# Altium integrated library Altera Stratix II GX.IntLib: 75 symbols (part 47 of 54)
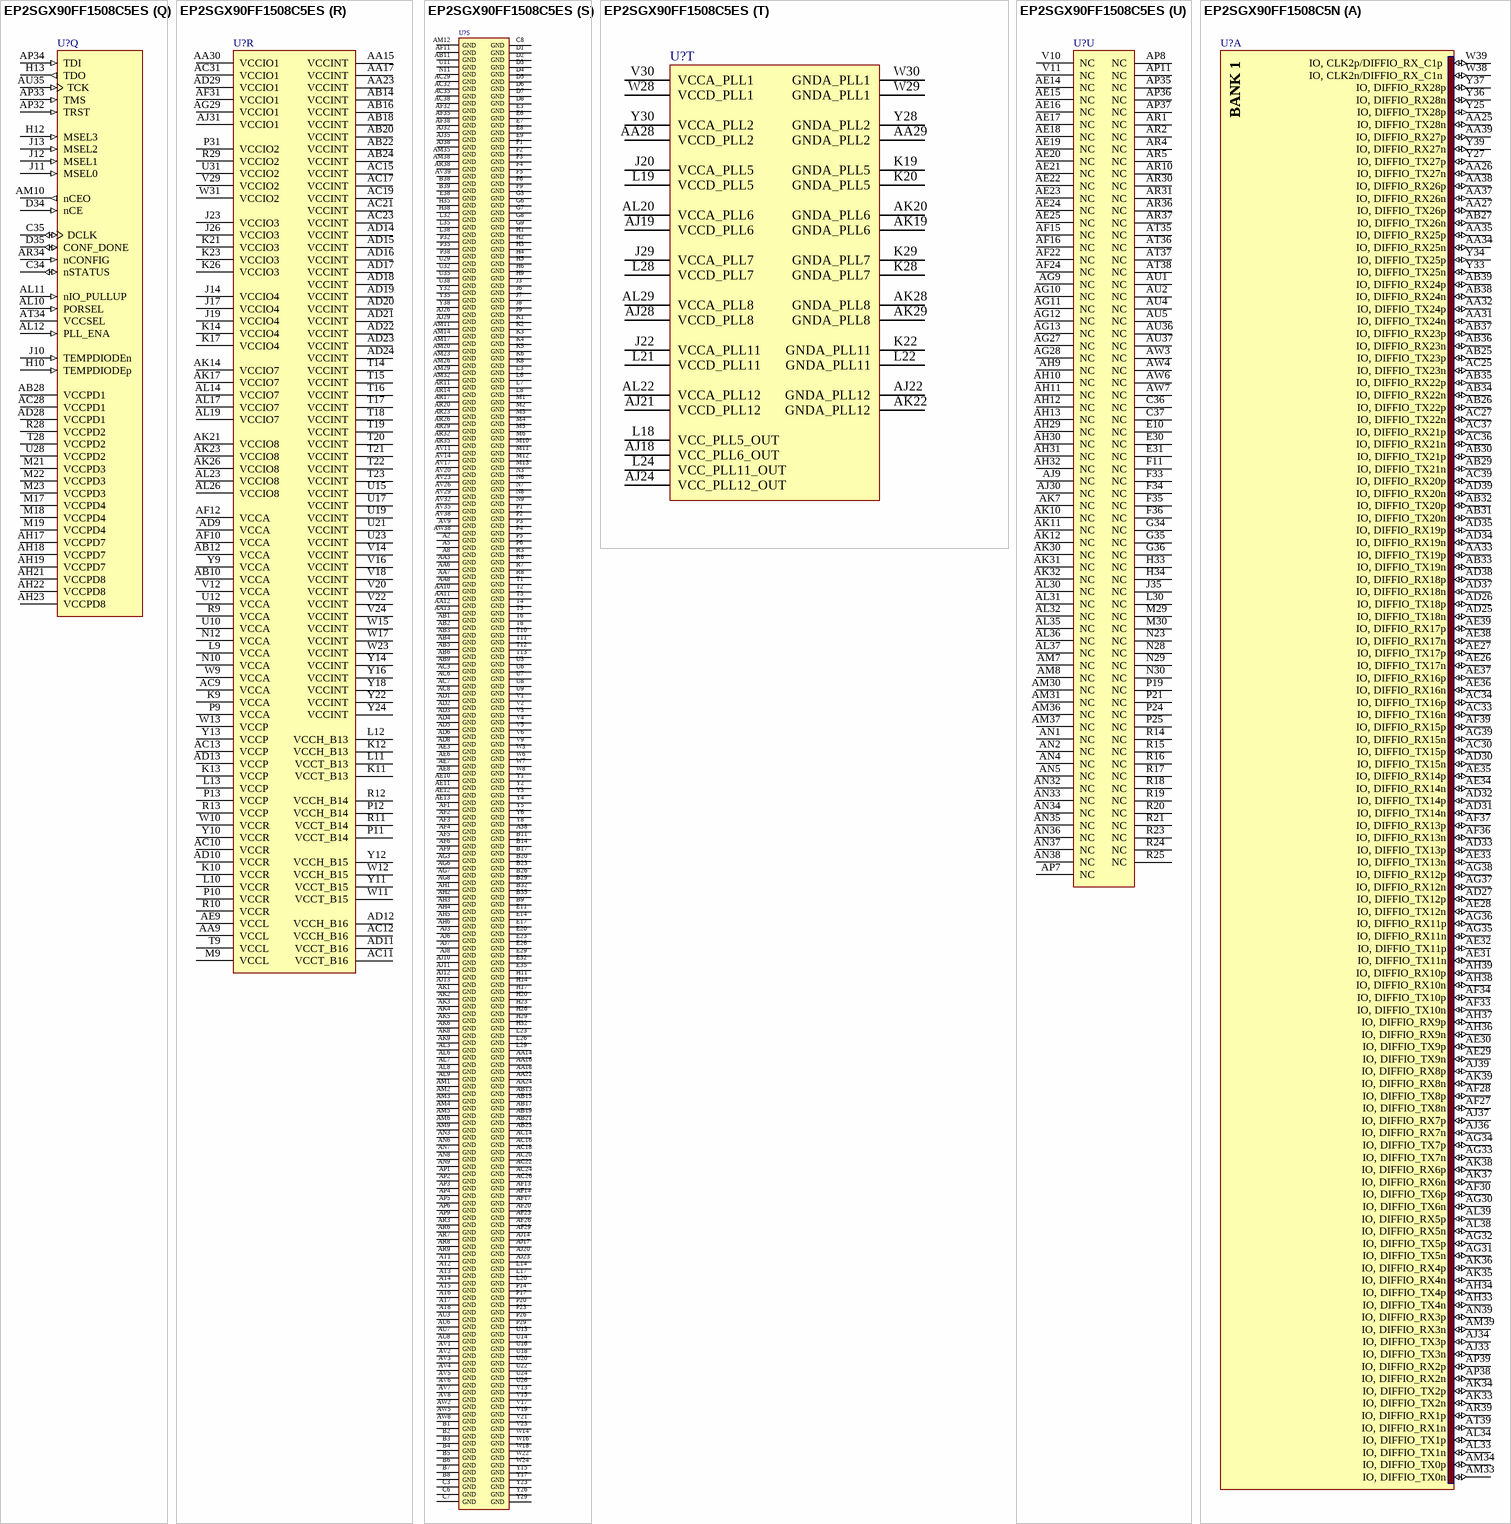
[diagram p269: symbols EP2SGX90FF1508C5ES to EP2SGX90FF1508C5N]

## EP2SGX90FF1508C5ES
designator U?
Stratix II GX 1.2V FPGA, 650 I/Os, 1508-Pin FineLine BGA, Speed Grade 5, Commercial Grade; DatasheetVersion: ver4.3, Oct-2007; PackageVersion: ver15.1, May-2008; PackageReference: FBGA1508; PackageDescription: 1508-Ball FineLine Ball Grid Array (FBGA1508) - Flip Chip; Code_JEDEC: MS-034-AAU-1; ComponentLink1Description: Manufacturer URL; ComponentLink1URL: http://www.altera.com/; ComponentLink2Description: Handbook; ComponentLink2URL: http://www.altera.com/literature/hb/stx2gx/stxiigx_handbook.pdf; ComponentLink3Description: Package Specification; ComponentLink3URL: http://www.altera.com/literature/ds/dspkg.pdf
footprint FBGA1508 (BGA, 1508-Leads, Body 40x40mm, Pitch 1mm)
part A pins: AA25 IO, DIFFIO_TX28n (io), AA26 IO, DIFFIO_TX27n (io), AA27 IO, DIFFIO_TX26p (io), AA31 IO, DIFFIO_TX24n (io), AA32 IO, DIFFIO_TX24p (io), AA33 IO, DIFFIO_TX19p (io), AA34 IO, DIFFIO_RX25n (io), AA35 IO, DIFFIO_RX25p (io), AA37 IO, DIFFIO_RX26n (io), AA38 IO, DIFFIO_RX26p (io), AA39 IO, DIFFIO_RX27p (io), AB25 IO, DIFFIO_TX23p (io), AB26 IO, DIFFIO_TX22p (io), AB27 IO, DIFFIO_TX26n (io), AB29 IO, DIFFIO_TX21n (io), AB30 IO, DIFFIO_TX21p (io), AB31 IO, DIFFIO_TX20n (io), AB32 IO, DIFFIO_TX20p (io), AB33 IO, DIFFIO_TX19n (io), AB34 IO, DIFFIO_RX22n (io), AB35 IO, DIFFIO_RX22p (io), AB36 IO, DIFFIO_RX23n (io), AB37 IO, DIFFIO_RX23p (io), AB38 IO, DIFFIO_RX24n (io), AB39 IO, DIFFIO_RX24p (io), AC25 IO, DIFFIO_TX23n (io), AC27 IO, DIFFIO_TX22n (io), AC30 IO, DIFFIO_TX15p (io), AC33 IO, DIFFIO_TX16n (io), AC34 IO, DIFFIO_TX16p (io), AC36 IO, DIFFIO_RX21n (io), AC37 IO, DIFFIO_RX21p (io), AC39 IO, DIFFIO_RX20p (io), AD25 IO, DIFFIO_TX18n (io), AD26 IO, DIFFIO_TX18p (io), AD27 IO, DIFFIO_TX12p (io), AD30 IO, DIFFIO_TX15n (io), AD31 IO, DIFFIO_TX14n (io), AD32 IO, DIFFIO_TX14p (io), AD33 IO, DIFFIO_TX13p (io), AD34 IO, DIFFIO_RX19n (io), AD35 IO, DIFFIO_RX19p (io), AD37 IO, DIFFIO_RX18n (io), AD38 IO, DIFFIO_RX18p (io), AD39 IO, DIFFIO_RX20n (io), AE26 IO, DIFFIO_TX17n (io), AE27 IO, DIFFIO_TX17p (io), AE28 IO, DIFFIO_TX12n (io), AE29 IO, DIFFIO_TX9n (io), AE30 IO, DIFFIO_TX9p (io), AE31 IO, DIFFIO_TX11n (io), AE32 IO, DIFFIO_TX11p (io), AE33 IO, DIFFIO_TX13n (io), AE34 IO, DIFFIO_RX14n (io), AE35 IO, DIFFIO_RX14p (io), AE36 IO, DIFFIO_RX16n (io), AE37 IO, DIFFIO_RX16p (io), AE38 IO, DIFFIO_RX17n (io), AE39 IO, DIFFIO_RX17p (io), AF27 IO, DIFFIO_TX8n (io), AF28 IO, DIFFIO_TX8p (io), AF30 IO, DIFFIO_TX6p (io), AF33 IO, DIFFIO_TX10n (io), AF34 IO, DIFFIO_TX10p (io), AF36 IO, DIFFIO_RX13n (io), AF37 IO, DIFFIO_RX13p (io), AF39 IO, DIFFIO_RX15p (io), AG30 IO, DIFFIO_TX6n (io), AG31 IO, DIFFIO_TX5n (io), AG32 IO, DIFFIO_TX5p (io), AG33 IO, DIFFIO_TX7n (io), AG34 IO, DIFFIO_TX7p (io), AG35 IO, DIFFIO_RX11n (io), AG36 IO, DIFFIO_RX11p (io), AG37 IO, DIFFIO_RX12n (io), AG38 IO, DIFFIO_RX12p (io), AG39 IO, DIFFIO_RX15n (io), AH33 IO, DIFFIO_TX4n (io), AH34 IO, DIFFIO_TX4p (io), AH36 IO, DIFFIO_RX9n (io), AH37 IO, DIFFIO_RX9p (io), AH38 IO, DIFFIO_RX10n (io), AH39 IO, DIFFIO_RX10p (io), AJ33 IO, DIFFIO_TX3n (io), AJ34 IO, DIFFIO_TX3p (io), AJ36 IO, DIFFIO_RX7n (io), AJ37 IO, DIFFIO_RX7p (io), AJ39 IO, DIFFIO_RX8p (io), AK33 IO, DIFFIO_TX2n (io), AK34 IO, DIFFIO_TX2p (io), AK35 IO, DIFFIO_RX4n (io), AK36 IO, DIFFIO_RX4p (io), AK37 IO, DIFFIO_RX6n (io), AK38 IO, DIFFIO_RX6p (io), AK39 IO, DIFFIO_RX8n (io), AL33 IO, DIFFIO_TX1n (io), AL34 IO, DIFFIO_TX1p (io), AL38 IO, DIFFIO_RX5n (io), AL39 IO, DIFFIO_RX5p (io), AM33 IO, DIFFIO_TX0n (io), AM34 IO, DIFFIO_TX0p (io), AM39 IO, DIFFIO_RX3n (io), AN39 IO, DIFFIO_RX3p (io), AP38 IO, DIFFIO_RX2n (io), AP39 IO, DIFFIO_RX2p (io), AR39 IO, DIFFIO_RX1p (io), AT39 IO, DIFFIO_RX1n (io), W38 IO, CLK2n/DIFFIO_RX_C1n (io), W39 IO, CLK2p/DIFFIO_RX_C1p (io), Y25 IO, DIFFIO_TX28p (io), Y27 IO, DIFFIO_TX27p (io), Y33 IO, DIFFIO_TX25n (io), Y34 IO, DIFFIO_TX25p (io), Y36 IO, DIFFIO_RX28n (io), Y37 IO, DIFFIO_RX28p (io), Y39 IO, DIFFIO_RX27n (io)
part B pins: D36 IO, DIFFIO_RX57n (io), D37 IO, DIFFIO_RX57p (io), D38 IO, DIFFIO_RX55n (io), D39 IO, DIFFIO_RX55p (io), E36 IO, DIFFIO_RX56n (io), E37 IO, DIFFIO_RX56p (io), E39 IO, DIFFIO_RX52p (io), F37 IO, DIFFIO_RX54n (io), F38 IO, DIFFIO_RX54p (io), F39 IO, DIFFIO_RX52n (io), G32 IO, DIFFIO_TX58n (io), G33 IO, DIFFIO_TX58p (io), G37 IO, DIFFIO_RX51n (io), G38 IO, DIFFIO_RX51p (io), G39 IO, DIFFIO_RX49p (io), H36 IO, DIFFIO_RX50n (io), H37 IO, DIFFIO_RX50p (io), H39 IO, DIFFIO_RX49n (io), J31 IO, DIFFIO_TX57n (io), J32 IO, DIFFIO_TX57p (io), J33 IO, DIFFIO_RX53n (io), J34 IO, DIFFIO_RX53p (io), J36 IO, DIFFIO_RX46n (io), J37 IO, DIFFIO_RX46p (io), J38 IO, DIFFIO_RX44n (io), J39 IO, DIFFIO_RX44p (io), K30 IO, DIFFIO_TX55p (io), K31 IO, DIFFIO_TX56n (io), K32 IO, DIFFIO_TX56p (io), K33 IO, DIFFIO_TX54n (io), K34 IO, DIFFIO_TX54p (io), K35 IO, DIFFIO_RX47n (io), K36 IO, DIFFIO_RX47p (io), K37 IO, DIFFIO_RX43n (io), K38 IO, DIFFIO_RX43p (io), K39 IO, DIFFIO_RX42p (io), L31 IO, DIFFIO_TX55n (io), L33 IO, DIFFIO_TX53n (io), L34 IO, DIFFIO_TX53p (io), L36 IO, DIFFIO_RX45n (io), L37 IO, DIFFIO_RX45p (io), L39 IO, DIFFIO_RX42n (io), M31 IO, DIFFIO_TX52n (io), M32 IO, DIFFIO_TX52p (io), M33 IO, DIFFIO_RX48n (io), M34 IO, DIFFIO_RX48p (io), M36 IO, DIFFIO_RX41n (io), M37 IO, DIFFIO_RX41p (io), M38 IO, DIFFIO_RX39n (io), M39 IO, DIFFIO_RX39p (io), N27 IO, DIFFIO_TX49p (io), N31 IO, DIFFIO_TX51n (io), N32 IO, DIFFIO_TX51p (io), N33 IO, DIFFIO_TX50n (io), N34 IO, DIFFIO_TX50p (io), N35 IO, DIFFIO_RX40n (io), N36 IO, DIFFIO_RX40p (io), N37 IO, DIFFIO_RX38n (io), N38 IO, DIFFIO_RX38p (io), N39 IO, DIFFIO_RX37p (io), P27 IO, DIFFIO_TX45p (io), P28 IO, DIFFIO_TX49n (io), P30 IO, DIFFIO_TX47p (io), P33 IO, DIFFIO_TX48n (io), P34 IO, DIFFIO_TX48p (io), P36 IO, DIFFIO_RX34n (io), P37 IO, DIFFIO_RX34p (io), P39 IO, DIFFIO_RX37n (io), R26 IO, DIFFIO_TX40p (io), R27 IO, DIFFIO_TX45n (io), R30 IO, DIFFIO_TX44p (io), R31 IO, DIFFIO_TX47n (io), R32 IO, DIFFIO_TX46n (io), R33 IO, DIFFIO_TX46p (io), R34 IO, DIFFIO_RX36n (io), R35 IO, DIFFIO_RX36p (io), R36 IO, DIFFIO_RX33n (io), R37 IO, DIFFIO_RX33p (io), R38 IO, DIFFIO_RX32n (io), R39 IO, DIFFIO_RX32p (io), T24 IO, DIFFIO_TX39n (io), T25 IO, DIFFIO_TX39p (io), T26 IO, DIFFIO_TX40n (io), T27 IO, DIFFIO_TX38p (io), T29 IO, DIFFIO_TX44n (io), T30 IO, DIFFIO_TX41n (io), T31 IO, DIFFIO_TX41p (io), T32 IO, DIFFIO_TX43n (io), T33 IO, DIFFIO_TX43p (io), T34 IO, DIFFIO_RX35n (io), T35 IO, DIFFIO_RX35p (io), T37 IO, DIFFIO_RX30n (io), T38 IO, DIFFIO_RX30p (io), T39 IO, DIFFIO_RX29n (io), U25 IO, DIFFIO_TX37p (io), U27 IO, DIFFIO_TX38n (io), U30 IO, DIFFIO_TX35n (io), U33 IO, DIFFIO_TX42n (io), U34 IO, DIFFIO_TX42p (io), U36 IO, DIFFIO_RX31n (io), U37 IO, DIFFIO_RX31p (io), U39 IO, DIFFIO_RX29p (io), V25 IO, DIFFIO_TX36p (io), V26 IO, DIFFIO_TX37n (io), V27 IO, DIFFIO_TX33n (io), V28 IO, DIFFIO_TX33p (io), V31 IO, DIFFIO_TX35p (io), V32 IO, DIFFIO_TX31n (io), V33 IO, DIFFIO_TX31p (io), V34 IO, DIFFIO_TX32n (io), V35 IO, DIFFIO_TX32p (io), V38 IO, CLK0n/DIFFIO_RX_C0n (io), V39 IO, CLK0p/DIFFIO_RX_C0p (io), W25 IO, DIFFIO_TX36n (io), W26 IO, DIFFIO_TX34n (io), W27 IO, DIFFIO_TX34p (io), W32 IO, DIFFIO_TX29p (io), W33 IO, DIFFIO_TX30n (io), W34 IO, DIFFIO_TX30p (io), Y31 IO, DIFFIO_TX29n (io)
part C pins: A23 IO, DQ10T/DQ5T1/DQ2T2/DQ1T2 (io), A24 IO, DQ10T/DQ5T2/DQ2T3/DQ1T3 (io), A25 IO, DQ11T/DQ5T7/DQ2T7/DQ1T8 (io), A26 IO, DQ12T/DQ6T3/DQ2T13/DQ1T14 (io), A27 IO, DQ13T/DQ6T6/DQ2T16/DQ1T16 (io), A28 IO, DQ13T/DQ6T7/DQ2T17/DQ1T17 (io), A29 IO, DQ14T/DQ7T1/DQ3T2/DQ1T20 (io), A30 IO, DQ15T/DQ7T7/DQ3T7/DQ1T26 (io), A31 IO, DQ15T/DQ7T6/DQ3T6/DQ1T25 (io), A32 IO, DQ16T/DQ8T0/DQ3T10/DQ1T29 (io), A33 IO, DQS16T/DQS8T/DQVLD3T (io), A34 IO, DQ16T/DQ8T3/DQ3T13/DQ1T32 (io), A35 IO, DQ17T/DQ8T5/DQ3T15/DQ1T34 (io), A36 IO, DQS17T/DQVLD8T (io), A37 IO, DQ17T/DQ8T8 (io), B24 IO, DQ10T/DQ5T3/DQ2T4/DQ1T4 (io), B25 IO, DQ11T/DQ5T8/DQ2T8/DQ1T9 (io), B27 IO, DQS13T/DQVLD6T/DQS1T (io), B28 IO, DQSn13T/DQ6T4/DQ2T14/DQSn1T (io), B30 IO, DQS15T/DQVLD7T/DQS3T (io), B31 IO, DQSn15T/DQ7T4/DQSn3T/DQ1T23 (io), B33 IO, DQSn16T/DQSn8T/DQ3T9/DQ1T28 (io), B34 IO, DQ17T/DQ8T6/DQ3T16/DQ1T35 (io), B36 IO, DQSn17T/DQ8T4/DQ3T14/DQ1T33 (io), B37 IO, DQ17T/DQ8T7/DQ3T17 (io), C22 IO, CLK14p (io), C23 IO, DQS10T/DQS5T (io), C24 IO, DQS11T/DQVLD5T/DQS2T (io), C25 IO, DQSn11T/DQ5T4/DQSn2T/DQ1T5 (io), C26 IO, DQ12T/DQ6T2/DQ2T12/DQ1T13 (io), C27 IO, DQ13T/DQ6T8 (io), C28 IO, DQS14T/DQS7T (io), C29 IO, DQSn14T/DQSn7T/DQ3T0/DQ1T18 (io), C30 IO, DQ15T/DQ7T5/DQ3T5/DQ1T24 (io), C31 IO, DQ15T/DQ7T8/DQ3T8/DQ1T27 (io), C32 IO, DQ16T/DQ8T1/DQ3T11/DQ1T30 (io), C33 IO, DQ16T/DQ8T2/DQ3T12/DQ1T31 (io), D21 IO, CLK14n (io), D23 IO, DQSn10T/DQSn5T/DQ2T0/DQ1T0 (io), D24 IO, DQ11T/DQ5T5/DQ2T5/DQ1T6 (io), D25 IO, DQS12T/DQS6T/DQVLD2T/DQVLD1T (io), D26 IO, DQSn12T/DQSn6T/DQ2T9/DQ1T10 (io), D27 IO, DQ13T/DQ6T5/DQ2T15/DQ1T15 (io), D28 IO, DQ14T/DQ7T0/DQ3T1/DQ1T19 (io), D29 IO, DQ14T/DQ7T3/DQ3T4/DQ1T22 (io), D30 IO (io), D31 IO (io), D32 IO (DATA2) (io), D33 IO (DATA3) (io), E25 IO, DQ12T/DQ6T1/DQ2T11/DQ1T12 (io), E28 IO, DQ14T/DQ7T2/DQ3T3/DQ1T21 (io), E33 IO (INIT_DONE) (io), E34 IO (io), F21 IO, CLK15p (io), F23 IO, DQ10T/DQ5T0/DQ2T1/DQ1T1 (io), F24 IO, DQ11T/DQ5T6/DQ2T6/DQ1T7 (io), F25 IO, DQ12T/DQ6T0/DQ2T10/DQ1T11 (io), F26 IO (io), F27 IO (io), F28 IO (io), F29 IO (io), F30 IO (io), F31 IO (DATA4) (io), F32 IO (DATA7) (io), G21 IO, CLK15n (io), G23 IO (PGM2) (io), G24 IO (nCSO) (io), G25 IO (io), G26 IO (io), G27 IO (io), G28 IO (io), G29 IO (io), G30 IO (DATA6) (io), G31 IO (RDYnBSY) (io), H22 IO (PGM1) (io), H24 IO (CRC_ERROR) (io), H25 IO (io), H27 IO (io), H28 IO (io), H30 IO (DATA5) (io), H31 IO (io), J24 IO (DATA0) (io), J25 IO (io), J27 IO (io), J28 IO (io), J30 IO (io), K24 IO (io), K25 IO (io), K27 IO (io), L25 IO (io), L27 IO (io), M24 IO (io), M25 IO (io), M26 IO (io), M27 IO (io), M28 IO (io), N22 IO (PGM0) (io), N24 IO (io), N25 IO (io), N26 IO (io), P22 IO (ASDO) (io), R22 IO (DATA1) (io)
part D pins: A9 IO, DQ0T/DQ0T3 (io), A10 IO, DQ1T/DQ0T6 (io), A11 IO, DQ2T/DQ1T1/DQ0T2/DQ0T2 (io), A12 IO, DQ2T/DQ1T3/DQ0T4/DQ0T4 (io), A13 IO, DQ3T/DQ1T8/DQ0T8/DQ0T9 (io), A14 IO, DQ5T/DQ2T7/DQ0T17/DQ0T17 (io), A15 IO, DQ5T/DQ2T8 (io), A16 IO, DQ6T/DQ3T3/DQ1T4/DQ0T22 (io), A17 IO, DQ8T/DQ4T1/DQ1T11/DQ0T30 (io), A18 IO, DQ8T/DQ4T0/DQ1T10/DQ0T29 (io), A20 IO, CLK12p (io), A21 IO, CLK12n (io), B10 IO, DQ1T/DQ0T8 (io), B12 IO, DQSn2T/DQSn1T/DQ0T0/DQ0T0 (io), B13 IO, DQ3T/DQ1T5/DQ0T5/DQ0T6 (io), B15 IO, DQSn5T/DQ2T4/DQ0T14/DQSn0T (io), B16 IO, DQ6T/DQ3T0/DQ1T1/DQ0T19 (io), B18 IO, DQS8T/DQS4T/DQVLD1T (io), B21 IO, CLK13p (io), C9 IO, DQ0T/DQ0T0 (io), C10 IO, DQ1T/DQ0T5 (io), C11 IO, DQSn1T/DQ0T4 (io), C12 IO, DQS2T/DQS1T (io), C13 IO, DQSn3T/DQ1T4/DQSn0T/DQ0T5 (io), C14 IO, DQ4T/DQ2T3/DQ0T13/DQ0T14 (io), C15 IO, DQS5T/DQVLD2T/DQS0T (io), C16 IO, DQSn6T/DQSn3T/DQ1T0/DQ0T18 (io), C17 IO, DQ7T/DQ3T8/DQ1T8/DQ0T27 (io), C18 IO, DQSn8T/DQSn4T/DQ1T9/DQ0T28 (io), C19 IO, DQ9T/DQ4T7/DQ1T17 (io), C21 IO, CLK13n (io), D9 IO, DQS0T/DQS0T (io), D10 IO, DQSn0T/DQSn0T (io), D11 IO, DQS1T/DQVLD0T (io), D12 IO, DQ2T/DQ1T0/DQ0T1/DQ0T1 (io), D13 IO, DQS3T/DQVLD1T/DQS0T (io), D14 IO, DQ4T/DQ2T0/DQ0T10/DQ0T11 (io), D15 IO, DQ5T/DQ2T5/DQ0T15/DQ0T15 (io), D16 IO, DQS6T/DQS3T (io), D17 IO, DQ7T/DQ3T6/DQ1T6/DQ0T25 (io), D18 IO, DQ8T/DQ4T2/DQ1T12/DQ0T31 (io), D19 IO, DQ9T/DQ4T5/DQ1T15/DQ0T34 (io), E12 IO, DQ2T/DQ1T2/DQ0T3/DQ0T3 (io), E15 IO, DQ5T/DQ2T6/DQ0T16/DQ0T16 (io), E18 IO, DQ8T/DQ4T3/DQ1T13/DQ0T32 (io), F10 IO, DQ0T/DQ0T2 (io), F12 IO, DQ3T/DQ1T7/DQ0T7/DQ0T8 (io), F13 IO, DQS4T/DQS2T/DQVLD0T/DQVLD0T (io), F14 IO, DQSn4T/DQSn2T/DQ0T9/DQ0T10 (io), F15 IO, DQ6T/DQ3T2/DQ1T3/DQ0T21 (io), F16 IO, DQS7T/DQVLD3T/DQS1T (io), F17 IO, DQSn7T/DQ3T4/DQSn1T/DQ0T23 (io), F18 IO, DQS9T/DQVLD4T (io), F19 IO, DQSn9T/DQ4T4/DQ1T14/DQ0T33 (io), G10 IO, DQ0T/DQ0T1 (io), G11 IO, DQ1T/DQ0T7 (io), G12 IO, DQ3T/DQ1T6/DQ0T6/DQ0T7 (io), G13 IO, DQ4T/DQ2T1/DQ0T11/DQ0T12 (io), G14 IO, DQ4T/DQ2T2/DQ0T12/DQ0T13 (io), G15 IO, DQ6T/DQ3T1/DQ1T2/DQ0T20 (io), G16 IO, DQ7T/DQ3T7/DQ1T7/DQ0T26 (io), G17 IO, DQ7T/DQ3T5/DQ1T5/DQ0T24 (io), G18 IO, DQ9T/DQ4T6/DQ1T16/DQ0T35 (io), G19 IO, DQ9T/DQ4T8 (io), H15 IO (io), H16 IO (io), H18 IO (io), H19 IO (io), H21 IO (io), J15 IO (io), J16 IO (io), J18 IO (io), J21 IO (io), K15 IO (io), K16 IO (io), K18 IO (io), L15 IO (io), L16 IO (io), M14 IO (io), M15 IO (io), M16 IO (io), M20 IO (io), N13 IO, RUP4 (io), N14 IO, RDN4 (io), N15 IO (io), N16 IO (io), N17 IO (io), N18 IO (io), N19 IO (io), N20 IO (io), N21 IO (io), P15 IO (io), P16 IO (io), P18 IO (io)
part E pins: AF18 IO (io), AF19 IO (io), AF21 IO (io), AG14 IO, RUP7 (io), AG15 IO (io), AG16 IO (io), AG17 IO (io), AG18 IO (io), AG19 IO (io), AG20 IO (io), AG21 IO (io), AH14 IO, RDN7 (io), AH15 IO (io), AH16 IO (io), AH20 IO (io), AJ15 IO (io), AJ16 IO (io), AK13 IO (io), AK15 IO (io), AK16 IO (io), AK18 IO (io), AL13 IO (io), AL15 IO (io), AL16 IO (io), AL18 IO (io), AM13 IO (io), AM15 IO (io), AM16 IO (io), AM18 IO (io), AM19 IO (io), AN10 IO, DQ0B/DQ0B1 (io), AN11 IO, DQ1B/DQ0B7 (io), AN12 IO, DQ3B/DQ1B7/DQ0B7/DQ0B8 (io), AN13 IO, DQ3B/DQ1B5/DQ0B5/DQ0B6 (io), AN14 IO, DQ4B/DQ2B1/DQ0B11/DQ0B12 (io), AN15 IO, DQ6B/DQ3B1/DQ1B2/DQ0B20 (io), AN16 IO, DQ6B/DQ3B0/DQ1B1/DQ0B19 (io), AN17 IO, DQ7B/DQ3B5/DQ1B5/DQ0B24 (io), AN18 IO, DQ9B/DQ4B5/DQ1B15/DQ0B34 (io), AN19 IO, DQ9B/DQ4B8 (io), AP10 IO, DQ0B/DQ0B2 (io), AP12 IO, DQS3B/DQVLD1B/DQS0B (io), AP13 IO, DQSn3B/DQ1B4/DQSn0B/DQ0B5 (io), AP14 IO, DQ4B/DQ2B3/DQ0B13/DQ0B14 (io), AP15 IO, DQS6B/DQS3B (io), AP16 IO, DQSn6B/DQSn3B/DQ1B0/DQ0B18 (io), AP17 IO, DQ7B/DQ3B8/DQ1B8/DQ0B27 (io), AP18 IO, DQS9B/DQVLD4B (io), AP19 IO, DQSn9B/DQ4B4/DQ1B14/DQ0B33 (io), AR12 IO, DQ2B/DQ1B2/DQ0B3/DQ0B3 (io), AR15 IO, DQ5B/DQ2B6/DQ0B16/DQ0B16 (io), AR18 IO, DQ8B/DQ4B3/DQ1B13/DQ0B32 (io), AT9 IO, DQS0B/DQS0B (io), AT10 IO, DQSn0B/DQSn0B (io), AT11 IO, DQS1B/DQVLD0B (io), AT12 IO, DQ2B/DQ1B0/DQ0B1/DQ0B1 (io), AT13 IO, DQ3B/DQ1B6/DQ0B6/DQ0B7 (io), AT14 IO, DQS4B/DQS2B/DQVLD0B/DQVLD0B (io), AT15 IO, DQ5B/DQ2B5/DQ0B15/DQ0B15 (io), AT16 IO, DQ6B/DQ3B3/DQ1B4/DQ0B22 (io), AT17 IO, DQS7B/DQVLD3B/DQS1B (io), AT18 IO, DQ8B/DQ4B1/DQ1B11/DQ0B30 (io), AT19 IO, DQ9B/DQ4B6/DQ1B16/DQ0B35 (io), AU9 IO, DQ0B/DQ0B0 (io), AU10 IO, DQ1B/DQ0B6 (io), AU11 IO, DQSn1B/DQ0B4 (io), AU12 IO, DQS2B/DQS1B (io), AU13 IO, DQ3B/DQ1B8/DQ0B8/DQ0B9 (io), AU14 IO, DQSn4B/DQSn2B/DQ0B9/DQ0B10 (io), AU15 IO, DQS5B/DQVLD2B/DQS0B (io), AU16 IO, DQ6B/DQ3B2/DQ1B3/DQ0B21 (io), AU17 IO, DQSn7B/DQ3B4/DQSn1B/DQ0B23 (io), AU18 IO, DQSn8B/DQSn4B/DQ1B9/DQ0B28 (io), AU19 IO, DQ9B/DQ4B7/DQ1B17 (io), AU21 IO, CLK7n (io), AV10 IO, DQ1B/DQ0B5 (io), AV12 IO, DQSn2B/DQSn1B/DQ0B0/DQ0B0 (io), AV13 IO, DQ4B/DQ2B2/DQ0B12/DQ0B13 (io), AV15 IO, DQSn5B/DQ2B4/DQ0B14/DQSn0B (io), AV16 IO, DQ7B/DQ3B7/DQ1B7/DQ0B26 (io), AV18 IO, DQS8B/DQS4B/DQVLD1B (io), AV21 IO, CLK7p (io), AW9 IO, DQ0B/DQ0B3 (io), AW10 IO, DQ1B/DQ0B8 (io), AW11 IO, DQ2B/DQ1B1/DQ0B2/DQ0B2 (io), AW12 IO, DQ2B/DQ1B3/DQ0B4/DQ0B4 (io), AW13 IO, DQ4B/DQ2B0/DQ0B10/DQ0B11 (io), AW14 IO, DQ5B/DQ2B7/DQ0B17/DQ0B17 (io), AW15 IO, DQ5B/DQ2B8 (io), AW16 IO, DQ7B/DQ3B6/DQ1B6/DQ0B25 (io), AW17 IO, DQ8B/DQ4B2/DQ1B12/DQ0B31 (io), AW18 IO, DQ8B/DQ4B0/DQ1B10/DQ0B29 (io), AW20 IO, CLK6p (io), AW21 IO, CLK6n (io)
part F pins: AF25 IO (io), AG22 IO (io), AG23 IO (io), AG24 IO (io), AG25 IO (io), AG26 IO (io), AH24 IO (io), AH25 IO (io), AH26 IO (io), AH27 IO (io), AH28 IO (io), AJ25 IO (io), AJ27 IO (io), AK24 IO (io), AK25 IO (io), AK27 IO (io), AL21 IO (RUnLU) (io), AL24 IO (io), AL25 IO (io), AL27 IO (io), AL28 IO (io), AM21 IO (DEV_OE) (io), AM22 IO (DEV_CLRn) (io), AM24 IO (io), AM25 IO (io), AM27 IO (io), AM28 IO (io), AN21 IO, CLK5n (io), AN23 IO (nCS) (io), AN24 IO (io), AN25 IO (io), AN26 IO (io), AN27 IO (io), AN28 IO (io), AN29 IO (io), AN30 IO (io), AN31 IO (io), AP21 IO, CLK5p (io), AP23 IO, DQ10B/DQ5B0/DQ2B1/DQ1B1 (io), AP24 IO, DQ11B/DQ5B6/DQ2B6/DQ1B7 (io), AP25 IO, DQ12B/DQ6B0/DQ2B10/DQ1B11 (io), AP26 IO (io), AP27 IO (io), AP28 IO (io), AP29 IO (io), AP30 IO (io), AP31 IO (io), AR25 IO, DQ12B/DQ6B1/DQ2B11/DQ1B12 (io), AR28 IO, DQ14B/DQ7B2/DQ3B3/DQ1B21 (io), AR33 IO (CS) (io), AT23 IO, DQSn10B/DQSn5B/DQ2B0/DQ1B0 (io), AT24 IO, DQ11B/DQ5B5/DQ2B5/DQ1B6 (io), AT25 IO, DQS12B/DQS6B/DQVLD2B/DQVLD1B (io), AT26 IO, DQSn12B/DQSn6B/DQ2B9/DQ1B10 (io), AT27 IO, DQ13B/DQ6B8 (io), AT28 IO, DQ14B/DQ7B0/DQ3B1/DQ1B19 (io), AT29 IO, DQ14B/DQ7B3/DQ3B4/DQ1B22 (io), AT30 IO (io), AT31 IO (io), AT32 IO (nRS) (io), AT33 IO (CLKUSR) (io), AU23 IO, DQS10B/DQS5B (io), AU24 IO, DQS11B/DQVLD5B/DQS2B (io), AU25 IO, DQSn11B/DQ5B4/DQSn2B/DQ1B5 (io), AU26 IO, DQ12B/DQ6B2/DQ2B12/DQ1B13 (io), AU27 IO, DQ13B/DQ6B5/DQ2B15/DQ1B15 (io), AU28 IO, DQS14B/DQS7B (io), AU29 IO, DQSn14B/DQSn7B/DQ3B0/DQ1B18 (io), AU30 IO, DQ15B/DQ7B5/DQ3B5/DQ1B24 (io), AU31 IO, DQ15B/DQ7B8/DQ3B8/DQ1B27 (io), AU32 IO, DQ16B/DQ8B1/DQ3B11/DQ1B30 (io), AU33 IO, DQ16B/DQ8B2/DQ3B12/DQ1B31 (io), AU34 IO (nWS) (io), AV22 IO, CLK4n (io), AV24 IO, DQ10B/DQ5B3/DQ2B4/DQ1B4 (io), AV25 IO, DQ11B/DQ5B8/DQ2B8/DQ1B9 (io), AV27 IO, DQS13B/DQVLD6B/DQS1B (io), AV28 IO, DQSn13B/DQ6B4/DQ2B14/DQSn1B (io), AV30 IO, DQS15B/DQVLD7B/DQS3B (io), AV31 IO, DQSn15B/DQ7B4/DQSn3B/DQ1B23 (io), AV33 IO, DQSn16B/DQSn8B/DQ3B9/DQ1B28 (io), AV34 IO, DQ17B/DQ8B6/DQ3B16/DQ1B35 (io), AV36 IO, DQSn17B/DQ8B4/DQ3B14/DQ1B33 (io), AV37 IO, DQ17B/DQ8B7/DQ3B17 (io), AW22 IO, CLK4p (io), AW23 IO, DQ10B/DQ5B1/DQ2B2/DQ1B2 (io), AW24 IO, DQ10B/DQ5B2/DQ2B3/DQ1B3 (io), AW25 IO, DQ11B/DQ5B7/DQ2B7/DQ1B8 (io), AW26 IO, DQ12B/DQ6B3/DQ2B13/DQ1B14 (io), AW27 IO, DQ13B/DQ6B6/DQ2B16/DQ1B16 (io), AW28 IO, DQ13B/DQ6B7/DQ2B17/DQ1B17 (io), AW29 IO, DQ14B/DQ7B1/DQ3B2/DQ1B20 (io), AW30 IO, DQ15B/DQ7B6/DQ3B6/DQ1B25 (io), AW31 IO, DQ15B/DQ7B7/DQ3B7/DQ1B26 (io), AW32 IO, DQ16B/DQ8B0/DQ3B10/DQ1B29 (io), AW33 IO, DQS16B/DQS8B/DQVLD3B (io), AW34 IO, DQ16B/DQ8B3/DQ3B13/DQ1B32 (io), AW35 IO, DQ17B/DQ8B5/DQ3B15/DQ1B34 (io), AW36 IO, DQS17B/DQVLD8B (io), AW37 IO, DQ17B/DQ8B8 (io)
part G pins: A19 IO, PLL5_OUT0p (io), B19 IO, PLL5_OUT0n (io), C20 IO, PLL5_OUT1p (io), D20 IO, PLL5_OUT1n (io), F20 IO, PLL5_FBp/OUT2p (io), G20 IO, PLL5_FBn/OUT2n (io)
part H pins: AN20 IO, PLL6_FBn/OUT2n (io), AP20 IO, PLL6_FBp/OUT2p (io), AT20 IO, PLL6_OUT1n (io), AU20 IO, PLL6_OUT1p (io), AV19 IO, PLL6_OUT0n (io), AW19 IO, PLL6_OUT0p (io)
part I pins: A22 IO, PLL11_OUT0p (io), B22 IO, PLL11_OUT0n (io), D22 IO, PLL11_OUT1p (io), E22 IO, PLL11_OUT1n (io), F22 IO, PLL11_FBp/OUT2p (io), G22 IO, PLL11_FBn/OUT2n (io)
part J pins: AN22 IO, PLL12_FBn/OUT2n (io), AP22 IO, PLL12_FBp/OUT2p (io), AR22 IO, PLL12_OUT1n (io), AT21 IO, PLL12_OUT1p (io), AT22 IO, PLL12_OUT0n (io), AU22 IO, PLL12_OUT0p (io)
part K pins: A3 GXB_RX1p (in), A4 GXB_RX1n (in), A6 GXB_TX1p (out), A7 GXB_TX1n (out), C1 GXB_RX0p (in), C2 GXB_RX0n (in), C4 GXB_TX0p (out), C5 GXB_TX0n (out), E1 GXB_RX2p (in), E2 GXB_RX2n (in), E4 GXB_TX2p (out), E5 GXB_TX2n (out), F7 REFCLK1_B13p (in), F8 REFCLK1_B13n (in), G1 GXB_RX3p (in), G2 GXB_RX3n (in), G4 GXB_TX3p (out), G5 GXB_TX3n (out), H7 REFCLK0_B13p (in), H8 REFCLK0_B13n (in)
part L pins: J1 GXB_RX5p (in), J2 GXB_RX5n (in), J4 GXB_TX5p (out), J5 GXB_TX5n (out), L1 GXB_RX4p (in), L2 GXB_RX4n (in), L4 GXB_TX4p (out), L5 GXB_TX4n (out), M7 REFCLK1_B14p (in), M8 REFCLK1_B14n (in), N1 GXB_RX6p (in), N2 GXB_RX6n (in), N4 GXB_TX6p (out), N5 GXB_TX6n (out), P7 REFCLK0_B14p (in), P8 REFCLK0_B14n (in), R1 GXB_RX7p (in), R2 GXB_RX7n (in), R4 GXB_TX7p (out), R5 GXB_TX7n (out)
part M pins: AA1 GXB_RX10p (in), AA2 GXB_RX10n (in), AA4 GXB_TX10p (out), AA5 GXB_TX10n (out), AB7 REFCLK0_B15p (in), AB8 REFCLK0_B15n (in), AC1 GXB_RX11p (in), AC2 GXB_RX11n (in), AC4 GXB_TX11p (out), AC5 GXB_TX11n (out), U1 GXB_RX9p (in), U2 GXB_RX9n (in), U4 GXB_TX9p (out), U5 GXB_TX9n (out), V7 REFCLK1_B15p (in), V8 REFCLK1_B15n (in), W1 GXB_RX8p (in), W2 GXB_RX8n (in), W4 GXB_TX8p (out), W5 GXB_TX8n (out)
part N pins: AE1 GXB_RX13p (in), AE2 GXB_RX13n (in), AE4 GXB_TX13p (out), AE5 GXB_TX13n (out), AF7 REFCLK1_B16p (in), AF8 REFCLK1_B16n (in), AG1 GXB_RX12p (in), AG2 GXB_RX12n (in), AG4 GXB_TX12p (out), AG5 GXB_TX12n (out), AH7 REFCLK0_B16p (in), AH8 REFCLK0_B16n (in), AJ1 GXB_RX14p (in), AJ2 GXB_RX14n (in), AJ4 GXB_TX14p (out), AJ5 GXB_TX14n (out), AL1 GXB_RX15p (in), AL2 GXB_RX15n (in), AL4 GXB_TX15p (out), AL5 GXB_TX15n (out)
part O pins: AU38 FPLL8CLKn, INPUT (in), AU39 FPLL8CLKp, INPUT (in), C38 FPLL7CLKn, INPUT (in), C39 FPLL7CLKp, INPUT (in), V36 CLK1n, INPUT (in), V37 CLK1p, INPUT (in), W36 CLK3n, INPUT (in), W37 CLK3p, INPUT (in)
part P pins: AA36 VREFB1N2 (in), AD7 RREFB16 (in), AD36 VREFB1N1 (in), AH35 VREFB1N0 (in), AR13 VREFB7N2 (in), AR16 VREFB7N1 (in), AR19 VREFB7N0 (in), AR21 VREFB8N2 (in), AR24 VREFB8N1 (in), AR27 VREFB8N0 (in), E13 VREFB4N0 (in), E16 VREFB4N1 (in), E19 VREFB4N2 (in), E21 VREFB3N0 (in), E24 VREFB3N1 (in), E27 VREFB3N2 (in), K7 RREFB13 (in), M35 VREFB2N2 (in), T7 RREFB14 (in), T36 VREFB2N1 (in), W35 VREFB2N0 (in), Y7 RREFB15 (in)
part Q pins: AB28 VCCPD1 (power), AC28 VCCPD1 (power), AD28 VCCPD1 (power), AH17 VCCPD7 (power), AH18 VCCPD7 (power), AH19 VCCPD7 (power), AH21 VCCPD8 (power), AH22 VCCPD8 (power), AH23 VCCPD8 (power), AL10 PORSEL (in), AL11 nIO_PULLUP (in), AL12 PLL_ENA (in), AM10 nCEO (out), AP32 TRST (in), AP33 TMS (in), AP34 TDI (in), AR34 nCONFIG (in), AT34 VCCSEL (power), AU35 TCK (in), C34 nSTATUS (io), C35 DCLK (io), D34 nCE (in), D35 CONF_DONE (io), H10 TEMPDIODEp (in), H12 MSEL3 (in), H13 TDO (out), J10 TEMPDIODEn (in), J11 MSEL0 (in), J12 MSEL1 (in), J13 MSEL2 (in), M17 VCCPD4 (power), M18 VCCPD4 (power), M19 VCCPD4 (power), M21 VCCPD3 (power), M22 VCCPD3 (power), M23 VCCPD3 (power), R28 VCCPD2 (power), T28 VCCPD2 (power), U28 VCCPD2 (power)
part R pins: AA9 VCCL (power), AA15 VCCINT (power), AA17 VCCINT (power), AA23 VCCINT (power), AA30 VCCIO1 (power), AB10 VCCA (power), AB12 VCCA (power), AB14 VCCINT (power), AB16 VCCINT (power), AB18 VCCINT (power), AB20 VCCINT (power), AB22 VCCINT (power), AB24 VCCINT (power), AC9 VCCA (power), AC10 VCCR (power), AC11 VCCT_B16 (power), AC12 VCCH_B16 (power), AC13 VCCP (power), AC15 VCCINT (power), AC17 VCCINT (power), AC19 VCCINT (power), AC21 VCCINT (power), AC23 VCCINT (power), AC31 VCCIO1 (power), AD9 VCCA (power), AD10 VCCR (power), AD11 VCCT_B16 (power), AD12 VCCH_B16 (power), AD13 VCCP (power), AD14 VCCINT (power), AD15 VCCINT (power), AD16 VCCINT (power), AD17 VCCINT (power), AD18 VCCINT (power), AD19 VCCINT (power), AD20 VCCINT (power), AD21 VCCINT (power), AD22 VCCINT (power), AD23 VCCINT (power), AD24 VCCINT (power), AD29 VCCIO1 (power), AE9 VCCL (power), AF10 VCCA (power), AF12 VCCA (power), AF31 VCCIO1 (power), AG29 VCCIO1 (power), AJ31 VCCIO1 (power), AK14 VCCIO7 (power), AK17 VCCIO7 (power), AK21 VCCIO8 (power), AK23 VCCIO8 (power), AK26 VCCIO8 (power), AL14 VCCIO7 (power), AL17 VCCIO7 (power), AL19 VCCIO7 (power), AL23 VCCIO8 (power), AL26 VCCIO8 (power), J14 VCCIO4 (power), J17 VCCIO4 (power), J19 VCCIO4 (power), J23 VCCIO3 (power), J26 VCCIO3 (power), K9 VCCA (power), K10 VCCR (power), K11 VCCT_B13 (power), K12 VCCH_B13 (power), K13 VCCP (power), K14 VCCIO4 (power), K17 VCCIO4 (power), K21 VCCIO3 (power), K23 VCCIO3 (power), K26 VCCIO3 (power), L9 VCCA (power), L10 VCCR (power), L11 VCCT_B13 (power), L12 VCCH_B13 (power), L13 VCCP (power), M9 VCCL (power), N10 VCCA (power), N12 VCCA (power), P9 VCCA (power), P10 VCCR (power), P11 VCCT_B14 (power), P12 VCCH_B14 (power), P13 VCCP (power), P31 VCCIO2 (power), R9 VCCA (power), R10 VCCR (power), R11 VCCT_B14 (power), R12 VCCH_B14 (power), R13 VCCP (power), R29 VCCIO2 (power), T9 VCCL (power), T14 VCCINT (power), T15 VCCINT (power), T16 VCCINT (power), T17 VCCINT (power), T18 VCCINT (power), T19 VCCINT (power), T20 VCCINT (power), T21 VCCINT (power), T22 VCCINT (power), T23 VCCINT (power), U10 VCCA (power), U12 VCCA (power), U15 VCCINT (power), U17 VCCINT (power), U19 VCCINT (power), U21 VCCINT (power), U23 VCCINT (power), U31 VCCIO2 (power), V12 VCCA (power), V14 VCCINT (power), V16 VCCINT (power), V18 VCCINT (power), V20 VCCINT (power), V22 VCCINT (power), V24 VCCINT (power), V29 VCCIO2 (power), W9 VCCA (power), W10 VCCR (power), W11 VCCT_B15 (power), W12 VCCH_B15 (power), W13 VCCP (power), W15 VCCINT (power), W17 VCCINT (power), W23 VCCINT (power), W31 VCCIO2 (power), Y9 VCCA (power), Y10 VCCR (power), Y11 VCCT_B15 (power), Y12 VCCH_B15 (power), Y13 VCCP (power), Y14 VCCINT (power), Y16 VCCINT (power), Y18 VCCINT (power), Y22 VCCINT (power), Y24 VCCINT (power)
part S pins: A2 GND (power), A5 GND (power), A8 GND (power), A38 GND (power), AA3 GND (power), AA6 GND (power), AA7 GND (power), AA8 GND (power), AA10 GND (power), AA11 GND (power), AA12 GND (power), AA13 GND (power), AA14 GND (power), AA16 GND (power), AA18 GND (power), AA22 GND (power), AA24 GND (power), AB1 GND (power), AB2 GND (power), AB3 GND (power), AB4 GND (power), AB5 GND (power), AB6 GND (power), AB9 GND (power), AB11 GND (power), AB13 GND (power), AB15 GND (power), AB17 GND (power), AB19 GND (power), AB21 GND (power), AB23 GND (power), AC3 GND (power), AC6 GND (power), AC7 GND (power), AC8 GND (power), AC14 GND (power), AC16 GND (power), AC18 GND (power), AC20 GND (power), AC22 GND (power), AC24 GND (power), AC26 GND (power), AC29 GND (power), AC32 GND (power), AC35 GND (power), AC38 GND (power), AD1 GND (power), AD2 GND (power), AD3 GND (power), AD4 GND (power), AD5 GND (power), AD6 GND (power), AD8 GND (power), AE3 GND (power), AE6 GND (power), AE7 GND (power), AE8 GND (power), AE10 GND (power), AE11 GND (power), AE12 GND (power), AE13 GND (power), AF1 GND (power), AF2 GND (power), AF3 GND (power), AF4 GND (power), AF5 GND (power), AF6 GND (power), AF9 GND (power), AF11 GND (power), AF13 GND (power), AF14 GND (power), AF17 GND (power), AF20 GND (power), AF23 GND (power), AF26 GND (power), AF29 GND (power), AF32 GND (power), AF35 GND (power), AF38 GND (power), AG3 GND (power), AG6 GND (power), AG7 GND (power), AG8 GND (power), AH1 GND (power), AH2 GND (power), AH3 GND (power), AH4 GND (power), AH5 GND (power), AH6 GND (power), AJ3 GND (power), AJ6 GND (power), AJ7 GND (power), AJ8 GND (power), AJ10 GND (power), AJ11 GND (power), AJ12 GND (power), AJ13 GND (power), AJ14 GND (power), AJ17 GND (power), AJ20 GND (power), AJ23 GND (power), AJ26 GND (power), AJ29 GND (power), AJ32 GND (power), AJ35 GND (power), AJ38 GND (power), AK1 GND (power), AK2 GND (power), AK3 GND (power), AK4 GND (power), AK5 GND (power), AK6 GND (power), AK8 GND (power), AK9 GND (power), AL3 GND (power), AL6 GND (power), AL7 GND (power), AL8 GND (power), AL9 GND (power), AM1 GND (power), AM2 GND (power), AM3 GND (power), AM4 GND (power), AM5 GND (power), AM6 GND (power), AM9 GND (power), AM11 GND (power), AM12 GND (power), AM14 GND (power), AM17 GND (power), AM20 GND (power), AM23 GND (power), AM26 GND (power), AM29 GND (power), AM32 GND (power), AM35 GND (power), AM38 GND (power), AN3 GND (power), AN6 GND (power), AN7 GND (power), AN8 GND (power), AN9 GND (power), AP1 GND (power), AP2 GND (power), AP3 GND (power), AP4 GND (power), AP5 GND (power), AP6 GND (power), AP9 GND (power), AR3 GND (power), AR6 GND (power), AR7 GND (power), AR8 GND (power), AR9 GND (power), AR11 GND (power), AR14 GND (power), AR17 GND (power), AR20 GND (power), AR23 GND (power), AR26 GND (power), AR29 GND (power), AR32 GND (power), AR35 GND (power), AR38 GND (power), AT1 GND (power), AT2 GND (power), AT3 GND (power), AT4 GND (power), AT5 GND (power), AT6 GND (power), AT7 GND (power), AT8 GND (power), AU3 GND (power), AU6 GND (power), AU7 GND (power), AU8 GND (power), AV1 GND (power), AV2 GND (power), AV3 GND (power), AV4 GND (power), AV5 GND (power), AV6 GND (power), AV7 GND (power), AV8 GND (power), AV9 GND (power), AV11 GND (power), AV14 GND (power), AV17 GND (power), AV20 GND (power), AV23 GND (power), AV26 GND (power), AV29 GND (power), AV32 GND (power), AV35 GND (power), AV38 GND (power), AV39 GND (power), AW2 GND (power), AW5 GND (power), AW8 GND (power), AW38 GND (power), B1 GND (power), B2 GND (power), B3 GND (power), B4 GND (power), B5 GND (power), B6 GND (power), B7 GND (power), B8 GND (power), B9 GND (power), B11 GND (power), B14 GND (power), B17 GND (power), B20 GND (power), B23 GND (power), B26 GND (power), B29 GND (power), B32 GND (power), B35 GND (power), B38 GND (power), B39 GND (power), C3 GND (power), C6 GND (power), C7 GND (power), C8 GND (power), D1 GND (power), D2 GND (power), D3 GND (power), D4 GND (power), D5 GND (power), D6 GND (power), D7 GND (power), D8 GND (power), E3 GND (power), E6 GND (power), E7 GND (power), E8 GND (power), E9 GND (power), E11 GND (power), E14 GND (power), E17 GND (power), E20 GND (power), E23 GND (power), E26 GND (power), E29 GND (power), E32 GND (power), E35 GND (power), E38 GND (power), F1 GND (power), F2 GND (power), F3 GND (power), F4 GND (power), F5 GND (power), F6 GND (power), F9 GND (power), G3 GND (power), G6 GND (power), G7 GND (power), G8 GND (power), G9 GND (power), H1 GND (power), H2 GND (power), H3 GND (power), H4 GND (power), H5 GND (power), H6 GND (power), H9 GND (power), H11 GND (power), H14 GND (power), H17 GND (power), H20 GND (power), H23 GND (power), H26 GND (power), H29 GND (power), H32 GND (power), H35 GND (power), H38 GND (power), J3 GND (power), J6 GND (power), J7 GND (power), J8 GND (power), J9 GND (power), K1 GND (power), K2 GND (power), K3 GND (power), K4 GND (power), K5 GND (power), K6 GND (power), K8 GND (power), L3 GND (power), L6 GND (power), L7 GND (power), L8 GND (power), L14 GND (power), L17 GND (power), L20 GND (power), L23 GND (power), L26 GND (power), L29 GND (power), L32 GND (power), L35 GND (power), L38 GND (power), M1 GND (power), M2 GND (power), M3 GND (power), M4 GND (power), M5 GND (power), M6 GND (power), M10 GND (power), M11 GND (power), M12 GND (power), M13 GND (power), N3 GND (power), N6 GND (power), N7 GND (power), N8 GND (power), N9 GND (power), N11 GND (power), P1 GND (power), P2 GND (power), P3 GND (power), P4 GND (power), P5 GND (power), P6 GND (power), P14 GND (power), P17 GND (power), P20 GND (power), P23 GND (power), P26 GND (power), P29 GND (power), P32 GND (power), P35 GND (power), P38 GND (power), R3 GND (power), R6 GND (power), R7 GND (power), R8 GND (power), T1 GND (power), T2 GND (power), T3 GND (power), T4 GND (power), T5 GND (power), T6 GND (power), T8 GND (power), T10 GND (power), T11 GND (power), T12 GND (power), T13 GND (power), U3 GND (power), U6 GND (power), U7 GND (power), U8 GND (power), U9 GND (power), U11 GND (power), U13 GND (power), U14 GND (power), U16 GND (power), U18 GND (power), U20 GND (power), U22 GND (power), U24 GND (power), U26 GND (power), U29 GND (power), U32 GND (power), U35 GND (power), U38 GND (power), V1 GND (power), V2 GND (power), V3 GND (power), V4 GND (power), V5 GND (power), V6 GND (power), V9 GND (power), V13 GND (power), V15 GND (power), V17 GND (power), V19 GND (power), V21 GND (power), V23 GND (power), W3 GND (power), W6 GND (power), W7 GND (power), W8 GND (power), W14 GND (power), W16 GND (power), W18 GND (power), W22 GND (power), W24 GND (power), Y1 GND (power), Y2 GND (power), Y3 GND (power), Y4 GND (power), Y5 GND (power), Y6 GND (power), Y8 GND (power), Y15 GND (power), Y17 GND (power), Y23 GND (power), Y26 GND (power), Y29 GND (power), Y32 GND (power), Y35 GND (power), Y38 GND (power)
part T pins: AA28 VCCD_PLL2 (power), AA29 GNDA_PLL2 (power), AJ18 VCC_PLL6_OUT (power), AJ19 VCCD_PLL6 (power), AJ21 VCCD_PLL12 (power), AJ22 GNDA_PLL12 (power), AJ24 VCC_PLL12_OUT (power), AJ28 VCCD_PLL8 (power), AK19 GNDA_PLL6 (power), AK20 GNDA_PLL6 (power), AK22 GNDA_PLL12 (power), AK28 GNDA_PLL8 (power), AK29 GNDA_PLL8 (power), AL20 VCCA_PLL6 (power), AL22 VCCA_PLL12 (power), AL29 VCCA_PLL8 (power), J20 VCCA_PLL5 (power), J22 VCCA_PLL11 (power), J29 VCCA_PLL7 (power), K19 GNDA_PLL5 (power), K20 GNDA_PLL5 (power), K22 GNDA_PLL11 (power), K28 GNDA_PLL7 (power), K29 GNDA_PLL7 (power), L18 VCC_PLL5_OUT (power), L19 VCCD_PLL5 (power), L21 VCCD_PLL11 (power), L22 GNDA_PLL11 (power), L24 VCC_PLL11_OUT (power), L28 VCCD_PLL7 (power), V30 VCCA_PLL1 (power), W28 VCCD_PLL1 (power), W29 GNDA_PLL1 (power), W30 GNDA_PLL1 (power), Y28 GNDA_PLL2 (power), Y30 VCCA_PLL2 (power)
part U pins: AE14 NC, AE15 NC, AE16 NC, AE17 NC, AE18 NC, AE19 NC, AE20 NC, AE21 NC, AE22 NC, AE23 NC, AE24 NC, AE25 NC, AF15 NC, AF16 NC, AF22 NC, AF24 NC, AG9 NC, AG10 NC, AG11 NC, AG12 NC, AG13 NC, AG27 NC, AG28 NC, AH9 NC, AH10 NC, AH11 NC, AH12 NC, AH13 NC, AH29 NC, AH30 NC, AH31 NC, AH32 NC, AJ9 NC, AJ30 NC, AK7 NC, AK10 NC, AK11 NC, AK12 NC, AK30 NC, AK31 NC, AK32 NC, AL30 NC, AL31 NC, AL32 NC, AL35 NC, AL36 NC, AL37 NC, AM7 NC, AM8 NC, AM30 NC, AM31 NC, AM36 NC, AM37 NC, AN1 NC, AN2 NC, AN4 NC, AN5 NC, AN32 NC, AN33 NC, AN34 NC, AN35 NC, AN36 NC, AN37 NC, AN38 NC, AP7 NC, AP8 NC, AP11 NC, AP35 NC, AP36 NC, AP37 NC, AR1 NC, AR2 NC, AR4 NC, AR5 NC, AR10 NC, AR30 NC, AR31 NC, AR36 NC, AR37 NC, AT35 NC, AT36 NC, AT37 NC, AT38 NC, AU1 NC, AU2 NC, AU4 NC, AU5 NC, AU36 NC, AU37 NC, AW3 NC, AW4 NC, AW6 NC, AW7 NC, C36 NC, C37 NC, E10 NC, E30 NC, E31 NC, F11 NC, F33 NC, F34 NC, F35 NC, F36 NC, G34 NC, G35 NC, G36 NC, H33 NC, H34 NC, J35 NC, L30 NC, M29 NC, M30 NC, N23 NC, N28 NC, N29 NC, N30 NC, P19 NC, P21 NC, P24 NC, P25 NC, R14 NC, R15 NC, R16 NC, R17 NC, R18 NC, R19 NC, R20 NC, R21 NC, R23 NC, R24 NC, R25 NC, V10 NC, V11 NC
part A text: BANK 1
part B text: BANK 2
part C text: BANK 3
part D text: BANK 4
part E text: BANK 7
part F text: BANK 8
part G text: BANK 9
part H text: BANK 10
part I text: BANK 11
part J text: BANK 12
part K text: BANK 13
part L text: BANK 14
part M text: BANK 15
part N text: BANK 16

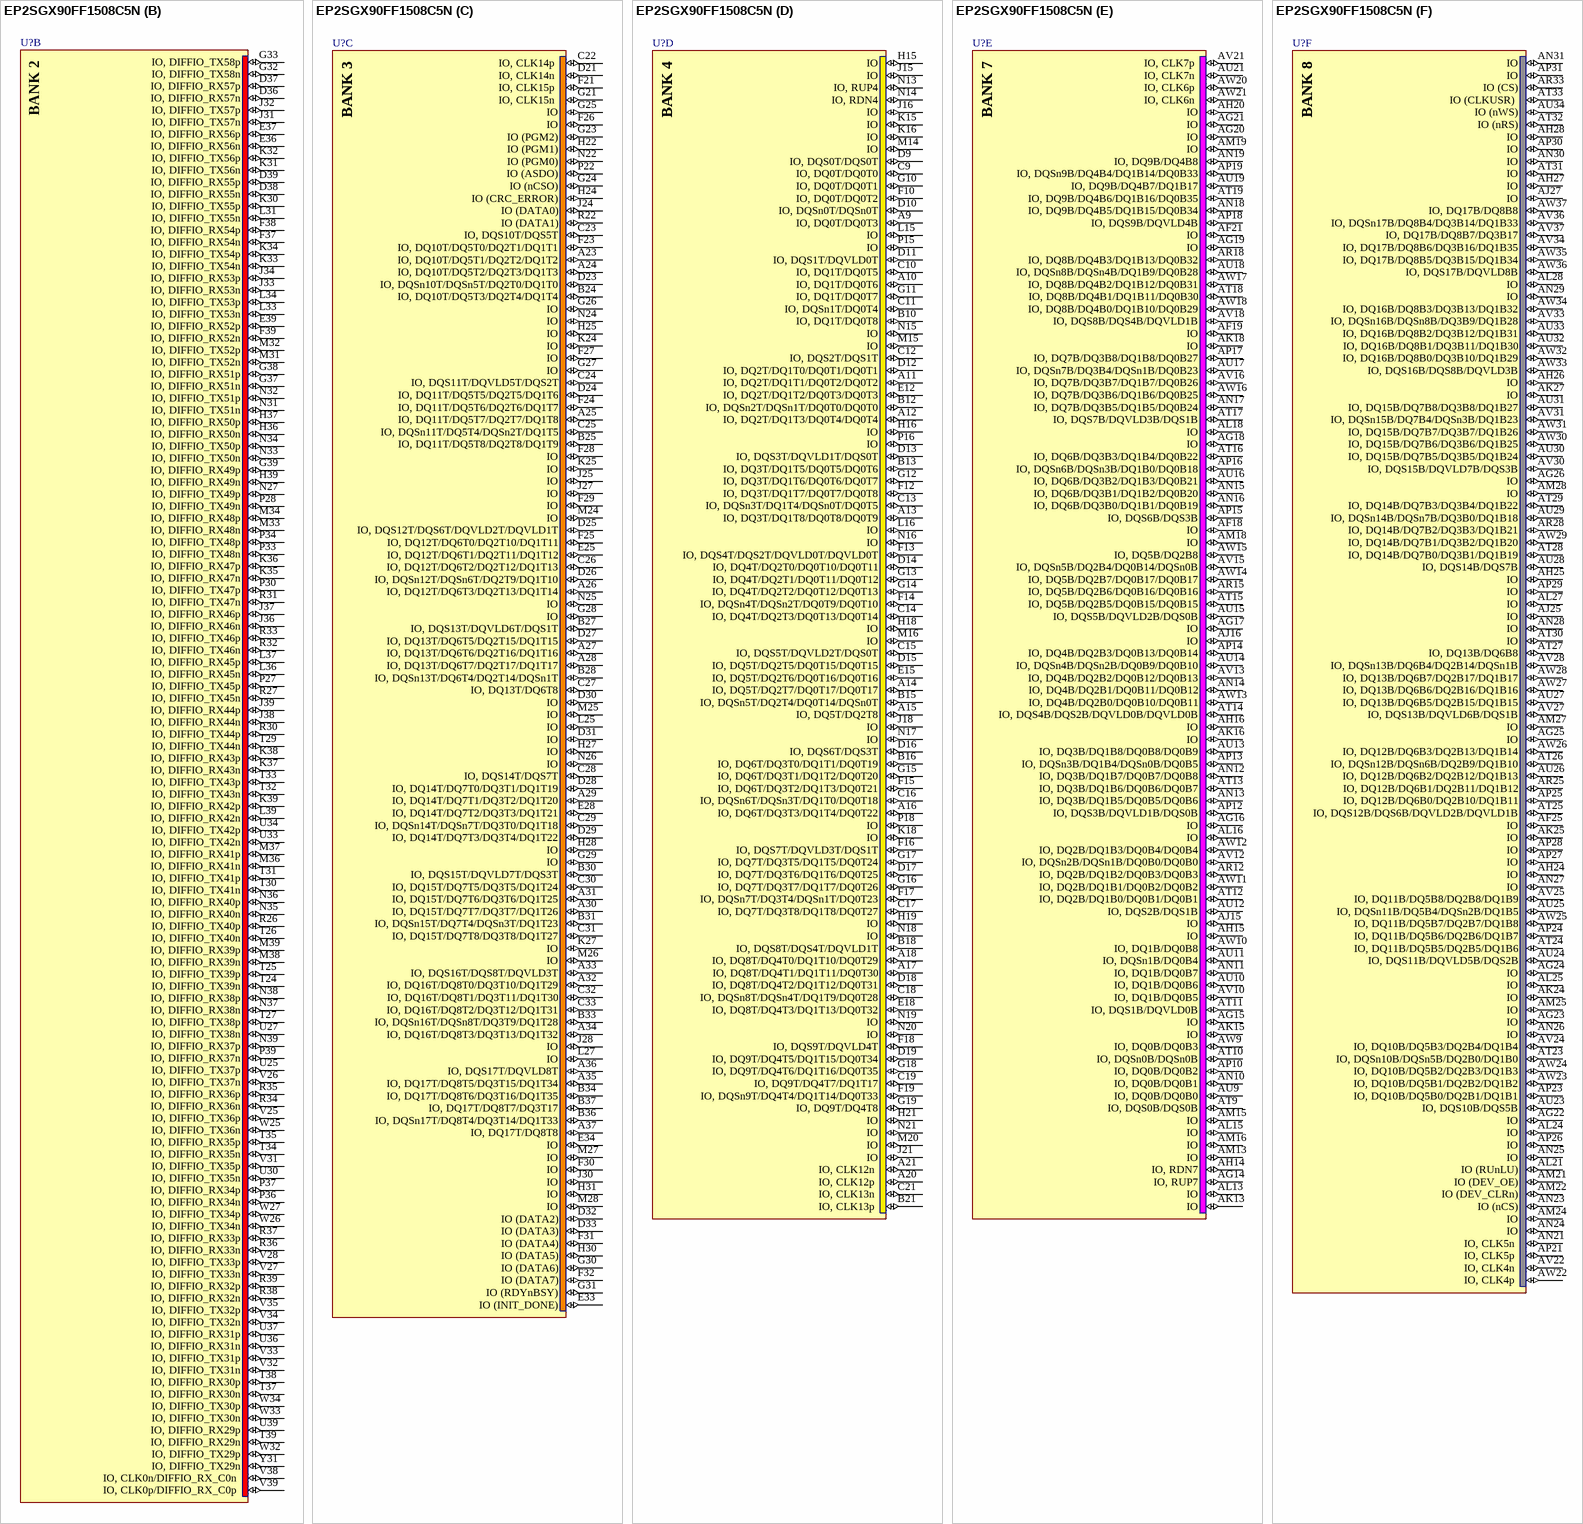
[diagram p187: symbol EP2SGX90FF1508C5N]

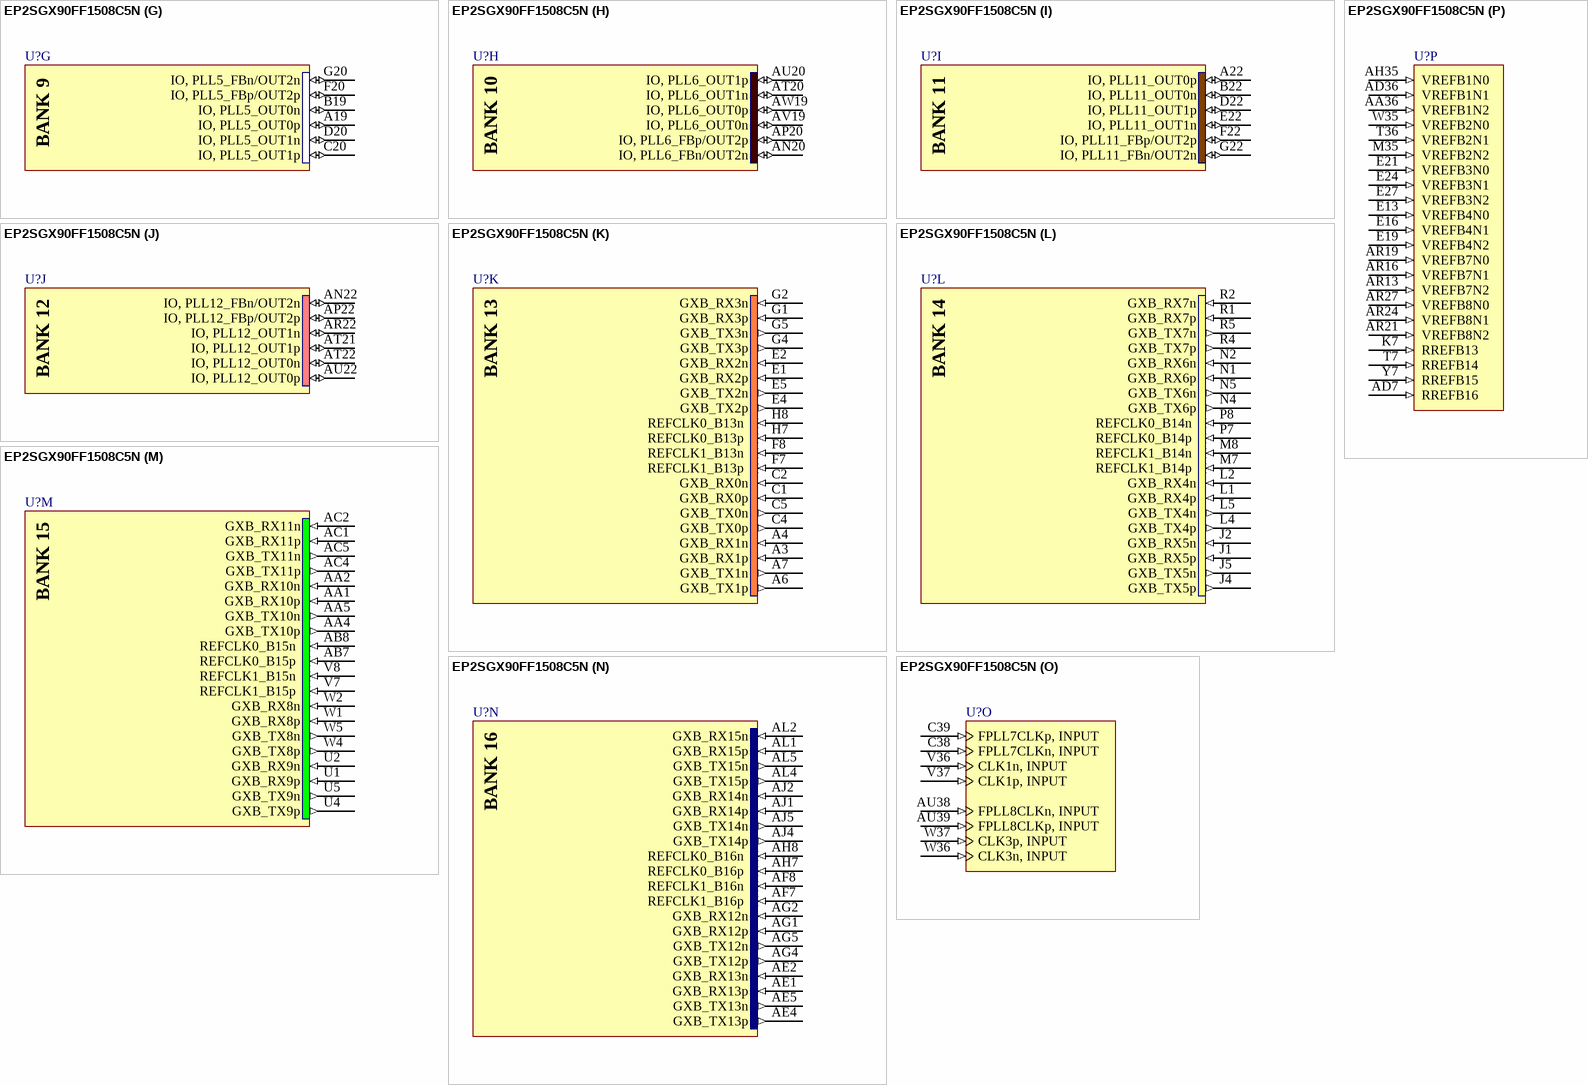
[diagram p188: symbol EP2SGX90FF1508C5N]

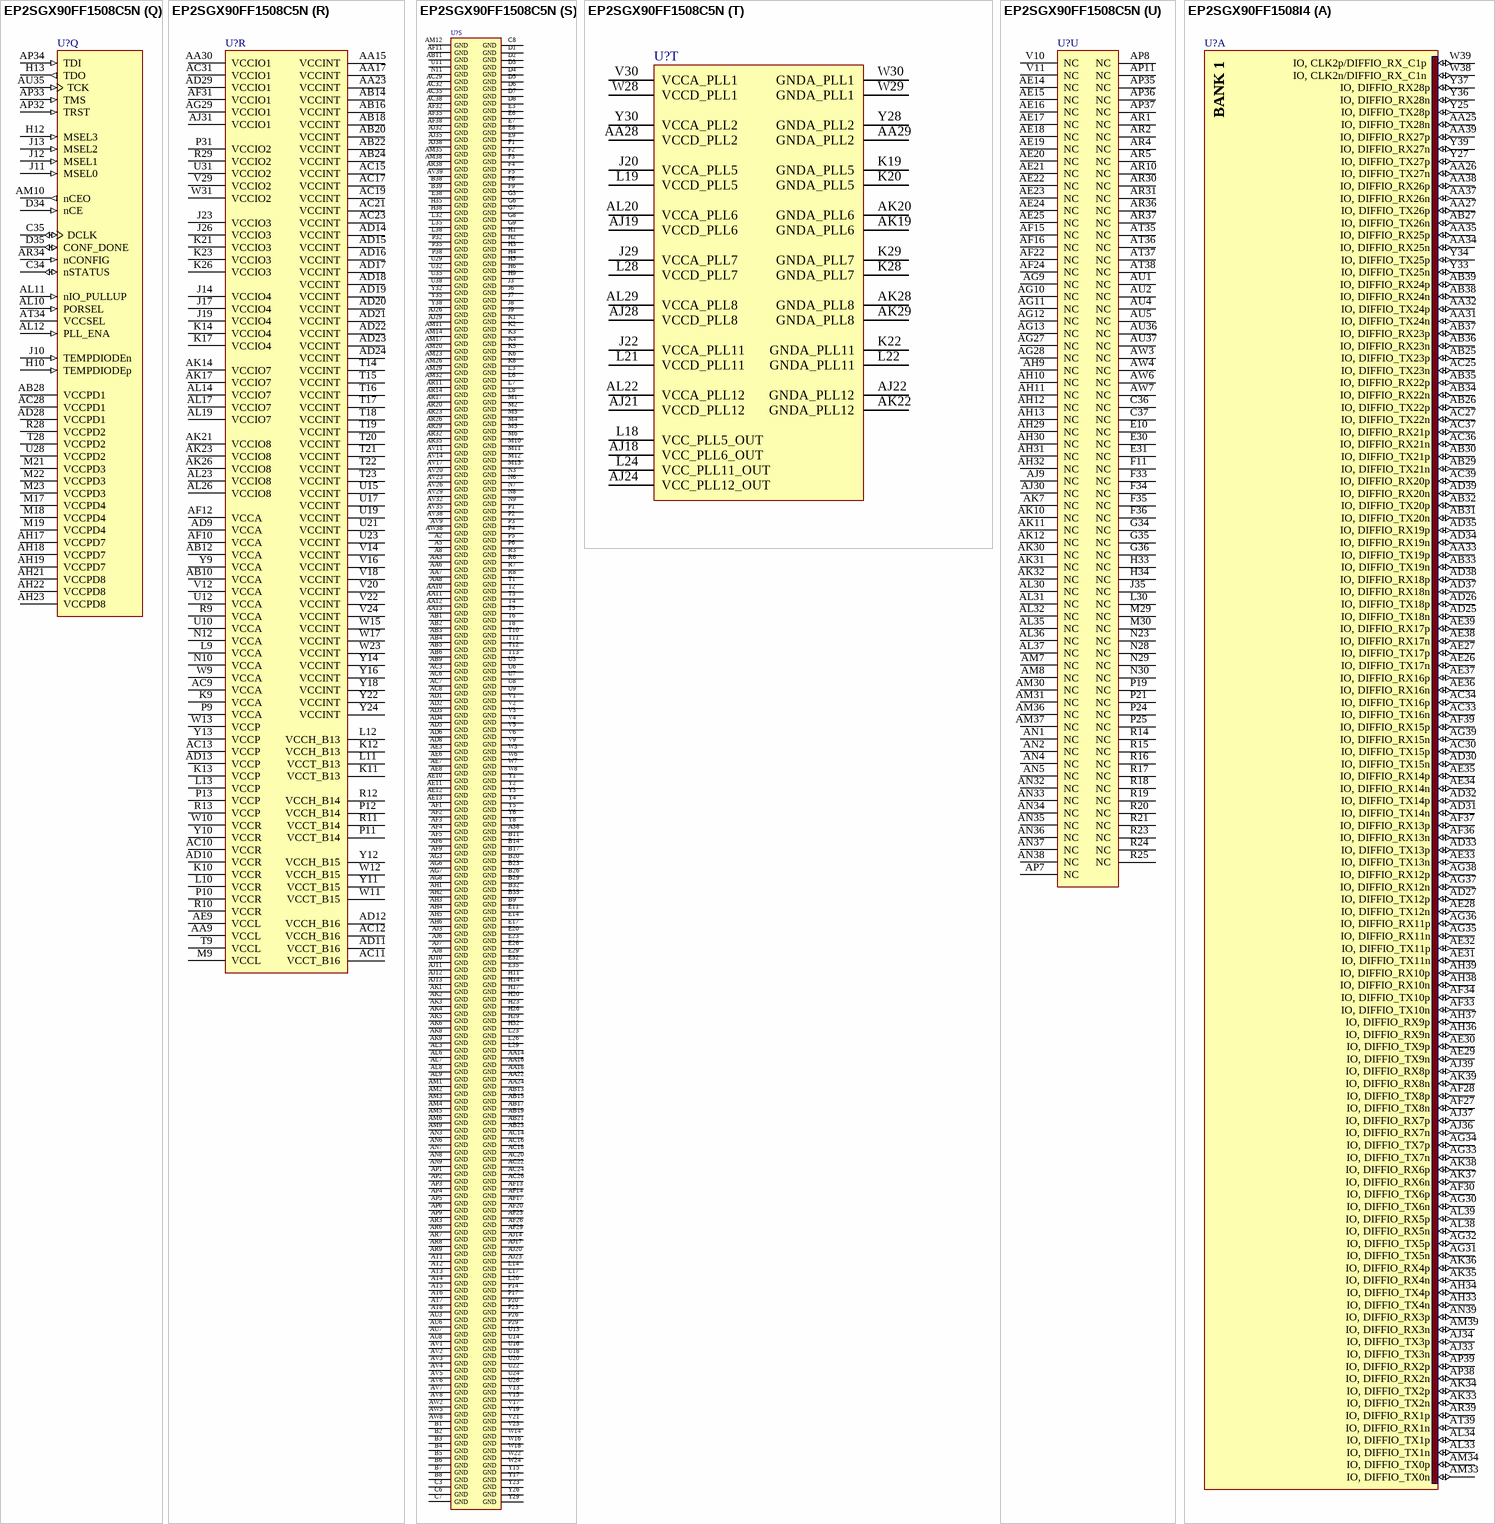
[diagram p189: symbols EP2SGX90FF1508C5N to EP2SGX90FF1508I4]